# Altium footprint library GRM155R60J475ME47D.PcbLib: 3 footprints
Each footprint in its own frame and in the unit in brackets; x right, y up, seen from the top. Pads: shape width x height; smd on the part's side, far side on the other; paste and mask are expansions set on the pad; w line width, h text height; cw(c..) or ccw(c..) is an arc to the next point about the centre after c.
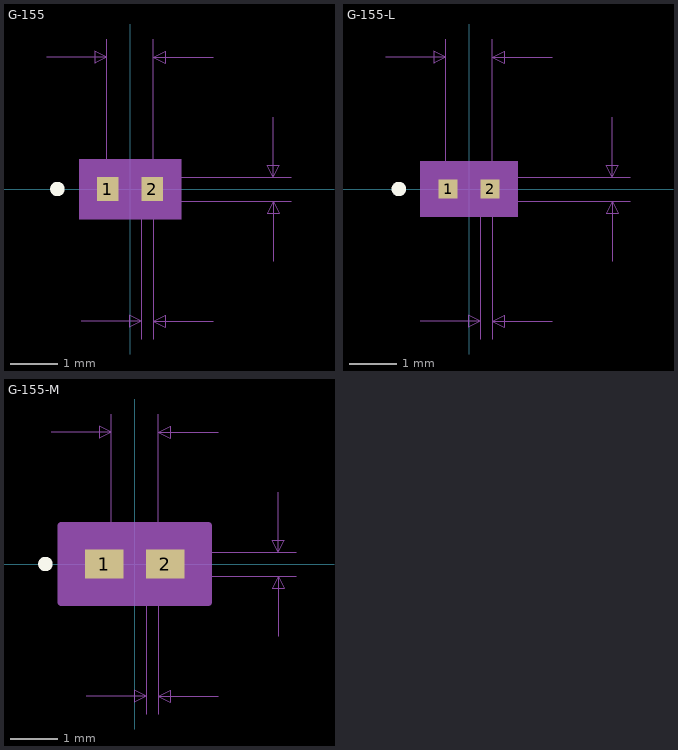
[diagram p0: the footprints below, top view; thin cyan lines are the x and y axes]

## G-155 [mil]
pads (2):
  rect 18x20 smd: 1(-18.5,0) 2(18.5,0)
Top Overlay:
  circle w6: c-60.5,0 r3
Mechanical 5:
  region: 42.5,-25 -42.5,-25 -42.5,25 42.5,25
Mechanical 7:
  lines w1: -69.5,110 -19.5,110 ; -40.5,-110 9.5,-110 ; -19.5,0 -19.5,125 ; 0,-10 134.5,-10 ; 0,10 134.5,10 ; 9.5,-125 9.5,0 ; 19.5,-125 19.5,0 19.5,125 ; 69.5,-110 19.5,-110 ; 69.5,110 19.5,110 ; 119.5,-60 119.5,-10 ; 119.5,60 119.5,10 ; -19.5,110 -29.5,115 -29.5,105 -19.5,110 ; 9.5,-110 -0.5,-105 -0.5,-115 9.5,-110 ; 19.5,-110 29.5,-105 29.5,-115 19.5,-110 ; 19.5,110 29.5,115 29.5,105 19.5,110 ; 119.5,-10 114.5,-20 124.5,-20 119.5,-10 ; 119.5,10 114.5,20 124.5,20 119.5,10
  text "Default Padstyle: RX18Y20D0T" at -350,-280 h50
  text "Alternate 1 Padstyle: OX60Y90D30P" at -412.5,-380 h50
  text "Alternate 2 Padstyle: OX90Y60D30P" at -412.5,-480 h50
  text "0.02in/0.508mm" at 139.5,-12.5 h25
  text "0.039in/0.991mm" at -93.75,130 h25
  text "0.01in/0.254mm" at -73,-155 h25
Mechanical 13:
  circle w0: c-13.5,0 r3
  lines w1: -19.5,-10 -19.5,10 ; -19.5,-10 -9.5,-10 -9.5,10 -19.5,10 ; -19.5,-10 19.5,-10 ; -19.5,-10 -19.5,10 ; -19.5,10 19.5,10 ; 19.5,-10 9.5,-10 9.5,10 19.5,10 ; 19.5,-10 19.5,10 ; 19.5,-10 19.5,10
Mechanical 15:
  region: 37.5,-20 -37.5,-20 -37.5,20 37.5,20
  lines w6: -37.5,-20 -37.5,20 37.5,20 37.5,-20 -37.5,-20
3D body: height 10, standoff 0, extent 0,0 10,10

## G-155-L [mil]
pads (2):
  rect 16x16 smd paste+0 mask+0: 1(-17.5,0) 2(17.5,0)
Top Overlay:
  circle w6: c-58.5,0 r3
Mechanical 5:
  region: 40.5,-23 -40.5,-23 -40.5,23 40.5,23
Mechanical 7:
  lines w1: -69.5,110 -19.5,110 ; -40.5,-110 9.5,-110 ; -19.5,0 -19.5,125 ; 0,-10 134.5,-10 ; 0,10 134.5,10 ; 9.5,-125 9.5,0 ; 19.5,-125 19.5,0 19.5,125 ; 69.5,-110 19.5,-110 ; 69.5,110 19.5,110 ; 119.5,-60 119.5,-10 ; 119.5,60 119.5,10 ; -19.5,110 -29.5,115 -29.5,105 -19.5,110 ; 9.5,-110 -0.5,-105 -0.5,-115 9.5,-110 ; 19.5,-110 29.5,-105 29.5,-115 19.5,-110 ; 19.5,110 29.5,115 29.5,105 19.5,110 ; 119.5,-10 114.5,-20 124.5,-20 119.5,-10 ; 119.5,10 114.5,20 124.5,20 119.5,10
  text "Default Padstyle: RX16Y16D0T" at -350,-278 h50
  text "Alternate 1 Padstyle: OX60Y90D30P" at -412.5,-378 h50
  text "Alternate 2 Padstyle: OX90Y60D30P" at -412.5,-478 h50
  text "0.02in/0.508mm" at 139.5,-12.5 h25
  text "0.039in/0.991mm" at -93.75,130 h25
  text "0.01in/0.254mm" at -73,-155 h25
Mechanical 13:
  circle w0: c-12.5,0 r3
  lines w1: -19.5,-10 -19.5,10 ; -19.5,-10 -9.5,-10 -9.5,10 -19.5,10 ; -19.5,-10 19.5,-10 ; -19.5,-10 -19.5,10 ; -19.5,10 19.5,10 ; 19.5,-10 9.5,-10 9.5,10 19.5,10 ; 19.5,-10 19.5,10 ; 19.5,-10 19.5,10
Mechanical 15:
  region: 29.5,-12 -29.5,-12 -29.5,12 29.5,12
  lines w6: -29.5,-12 -29.5,12 29.5,12 29.5,-12 -29.5,-12
3D body: height 10, standoff 0, extent 0,0 10,10

## G-155-M [mil]
pads (2):
  rect 32x24 smd paste+0 mask+0: 1(-25.5,0) 2(25.5,0)
Top Overlay:
  circle w6: c-74.5,0 r3
Mechanical 5:
  region: 56.5,-27 -56.5,-27 -56.5,27 56.5,27
Mechanical 7:
  lines w1: -69.5,110 -19.5,110 ; -40.5,-110 9.5,-110 ; -19.5,0 -19.5,125 ; 0,-10 134.5,-10 ; 0,10 134.5,10 ; 9.5,-125 9.5,0 ; 19.5,-125 19.5,0 19.5,125 ; 69.5,-110 19.5,-110 ; 69.5,110 19.5,110 ; 119.5,-60 119.5,-10 ; 119.5,60 119.5,10 ; -19.5,110 -29.5,115 -29.5,105 -19.5,110 ; 9.5,-110 -0.5,-105 -0.5,-115 9.5,-110 ; 19.5,-110 29.5,-105 29.5,-115 19.5,-110 ; 19.5,110 29.5,115 29.5,105 19.5,110 ; 119.5,-10 114.5,-20 124.5,-20 119.5,-10 ; 119.5,10 114.5,20 124.5,20 119.5,10
  text "Default Padstyle: RX32Y24D0T" at -350,-282 h50
  text "Alternate 1 Padstyle: OX60Y90D30P" at -412.5,-382 h50
  text "Alternate 2 Padstyle: OX90Y60D30P" at -412.5,-482 h50
  text "0.02in/0.508mm" at 139.5,-12.5 h25
  text "0.039in/0.991mm" at -93.75,130 h25
  text "0.01in/0.254mm" at -73,-155 h25
Mechanical 13:
  circle w0: c-20.5,0 r3
  lines w1: -19.5,-10 -19.5,10 ; -19.5,-10 -9.5,-10 -9.5,10 -19.5,10 ; -19.5,-10 19.5,-10 ; -19.5,-10 -19.5,10 ; -19.5,10 19.5,10 ; 19.5,-10 9.5,-10 9.5,10 19.5,10 ; 19.5,-10 19.5,10 ; 19.5,-10 19.5,10
Mechanical 15:
  region: 61.5,-32 -61.5,-32 -61.5,32 61.5,32
  lines w6: -61.5,-32 -61.5,32 61.5,32 61.5,-32 -61.5,-32
3D body: height 10, standoff 0, extent 0,0 10,10